# Altium schematic symbol library Quectel.SCHLIB: 26 symbols
Pins are listed as number, name and electrical type; pins without a type are passive.

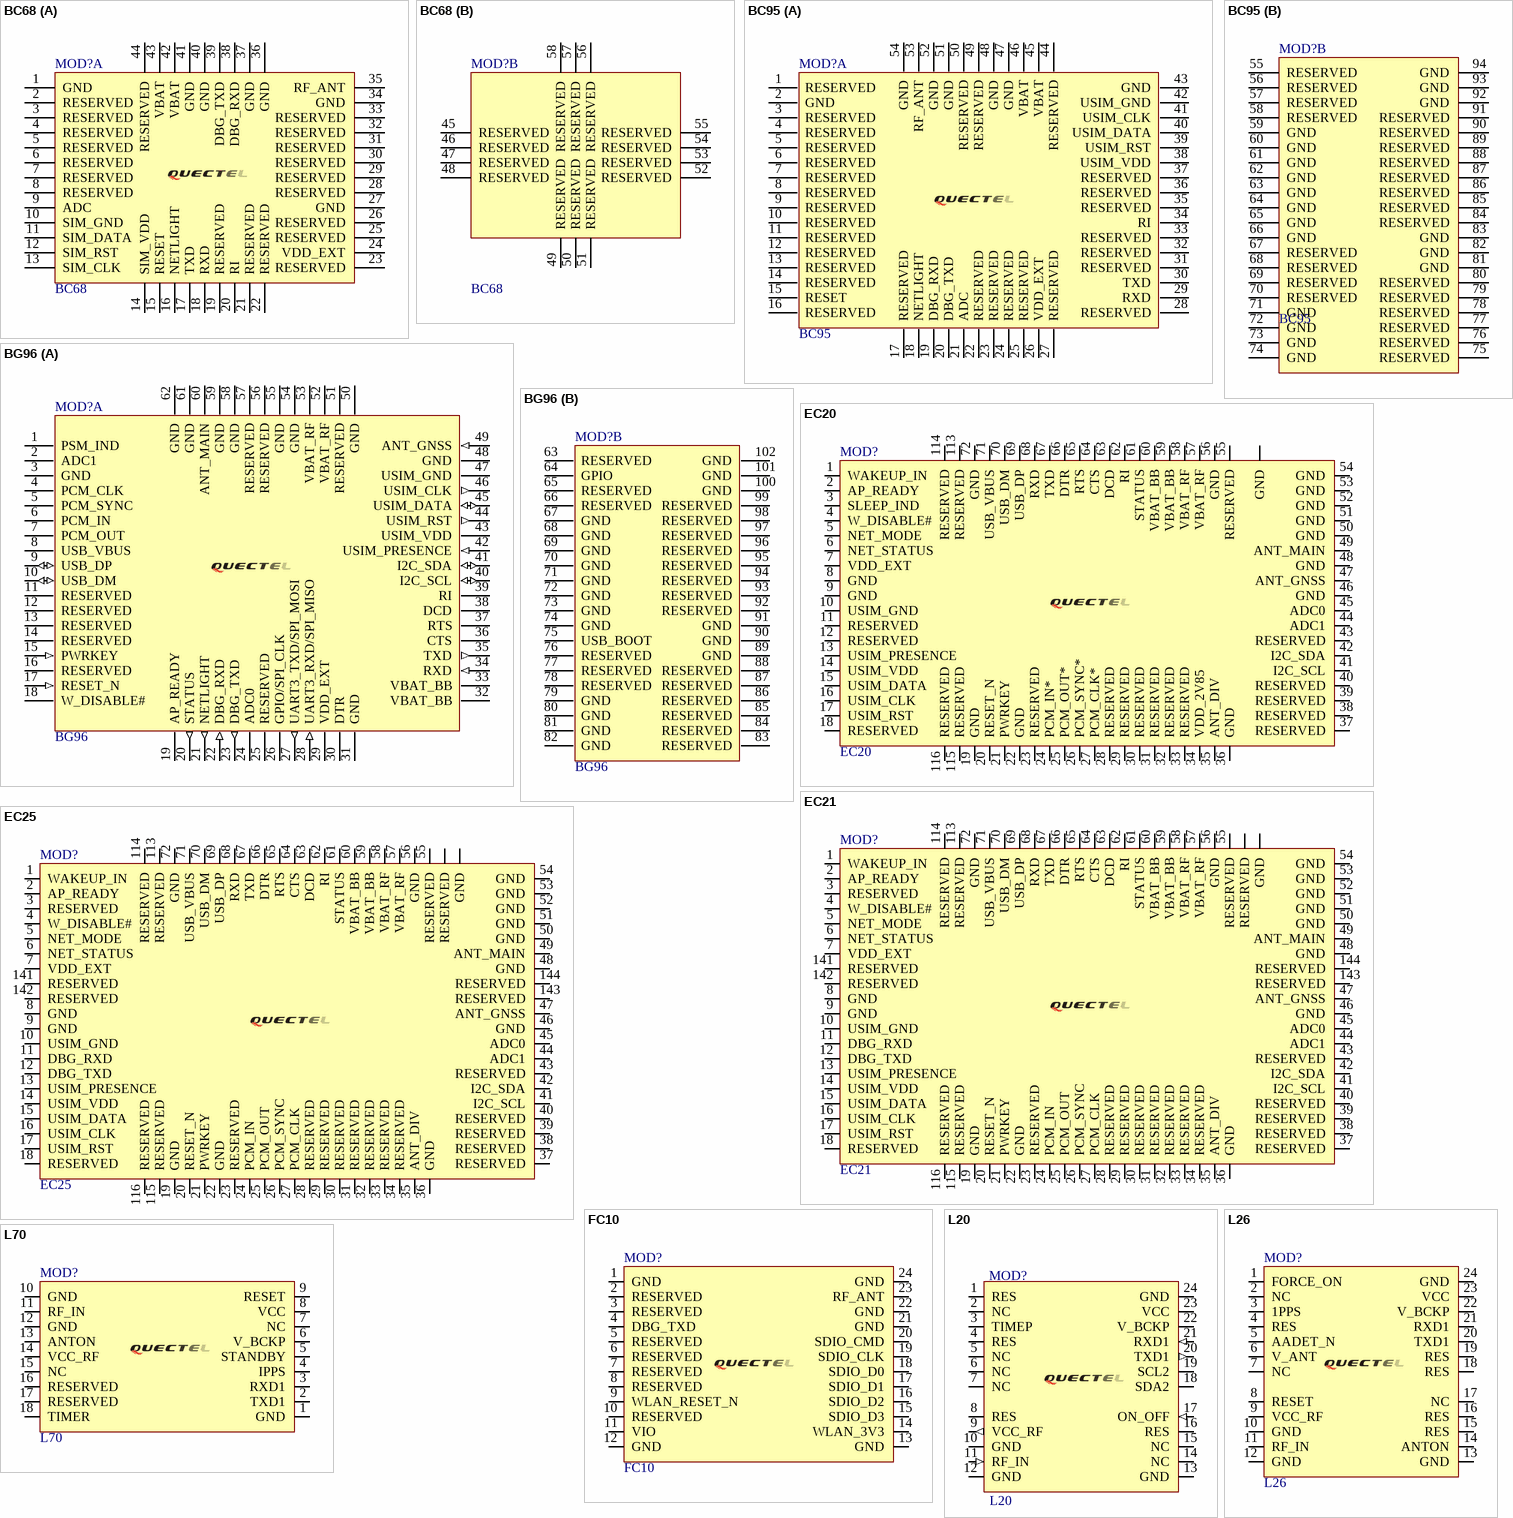
[diagram p0: symbols BC68 to L70]

## BC68
designator MOD?
NB-IoT module; Manuf1: Quectel; Populated: Yes; ReferencePackage: LCC; Value: BC68; ComponentLink1Description: Datasheet; LifeCycle: Checked; Manuf1Partnumber: BC68; PackageReference: LCC; ROHS: Yes; Supplier 1: Quectel; Supplier 1 Part Number: BC68
footprint BC68 (BC68 15.8X17.7mm H2.05mm RO)
part A pins: 1 GND, 2 RESERVED, 3 RESERVED, 4 RESERVED, 5 RESERVED, 6 RESERVED, 7 RESERVED, 8 RESERVED, 9 ADC, 10 SIM_GND, 11 SIM_DATA, 12 SIM_RST, 13 SIM_CLK, 14 SIM_VDD, 15 RESET, 16 NETLIGHT, 17 TXD, 18 RXD, 19 RESERVED, 20 RI, 21 RESERVED, 22 RESERVED, 23 RESERVED, 24 VDD_EXT, 25 RESERVED, 26 RESERVED, 27 GND, 28 RESERVED, 29 RESERVED, 30 RESERVED, 31 RESERVED, 32 RESERVED, 33 RESERVED, 34 GND, 35 RF_ANT, 36 GND, 37 GND, 38 DBG_RXD, 39 DBG_TXD, 40 GND, 41 GND, 42 VBAT, 43 VBAT, 44 RESERVED
part B pins: 45 RESERVED, 46 RESERVED, 47 RESERVED, 48 RESERVED, 49 RESERVED, 50 RESERVED, 51 RESERVED, 52 RESERVED, 53 RESERVED, 54 RESERVED, 55 RESERVED, 56 RESERVED, 57 RESERVED, 58 RESERVED

## BC95
designator MOD?
LTE NB-IoT Module; Manuf1: Quectel; Populated: Yes; ReferencePackage: LCC; Value: BC95; ComponentLink1Description: Datasheet; LifeCycle: Checked; Manuf1Partnumber: BC95; PackageReference: LCC; ROHS: Yes; Supplier 1: Quectel; Supplier 1 Part Number: BC95
footprint BC95
part A pins: 1 RESERVED, 2 GND, 3 RESERVED, 4 RESERVED, 5 RESERVED, 6 RESERVED, 7 RESERVED, 8 RESERVED, 9 RESERVED, 10 RESERVED, 11 RESERVED, 12 RESERVED, 13 RESERVED, 14 RESERVED, 15 RESET, 16 RESERVED, 17 RESERVED, 18 NETLIGHT, 19 DBG_RXD, 20 DBG_TXD, 21 ADC, 22 RESERVED, 23 RESERVED, 24 RESERVED, 25 RESERVED, 26 VDD_EXT, 27 RESERVED, 28 RESERVED, 29 RXD, 30 TXD, 31 RESERVED, 32 RESERVED, 33 RESERVED, 34 RI, 35 RESERVED, 36 RESERVED, 37 RESERVED, 38 USIM_VDD, 39 USIM_RST, 40 USIM_DATA, 41 USIM_CLK, 42 USIM_GND, 43 GND, 44 RESERVED, 45 VBAT, 46 VBAT, 47 GND, 48 GND, 49 RESERVED, 50 RESERVED, 51 GND, 52 GND, 53 RF_ANT, 54 GND
part B pins: 55 RESERVED, 56 RESERVED, 57 RESERVED, 58 RESERVED, 59 GND, 60 GND, 61 GND, 62 GND, 63 GND, 64 GND, 65 GND, 66 GND, 67 RESERVED, 68 RESERVED, 69 RESERVED, 70 RESERVED, 71 GND, 72 GND, 73 GND, 74 GND, 75 RESERVED, 76 RESERVED, 77 RESERVED, 78 RESERVED, 79 RESERVED, 80 RESERVED, 81 GND, 82 GND, 83 GND, 84 RESERVED, 85 RESERVED, 86 RESERVED, 87 RESERVED, 88 RESERVED, 89 RESERVED, 90 RESERVED, 91 RESERVED, 92 GND, 93 GND, 94 GND
2 alternate drawings of the same symbol

## BG96
designator MOD?
LTE Cat M1/Cat NB1/EGPRS module; Manuf1: Quectel; Populated: Yes; ReferencePackage: LCC; Value: BG96; ComponentLink1Description: Datasheet; LifeCycle: Checked; Manuf1Partnumber: BG96; PackageReference: LCC; ROHS: Yes; Supplier 1: Quectel; Supplier 1 Part Number: BG96
footprint BG96
part A pins: 1 PSM_IND, 2 ADC1, 3 GND, 4 PCM_CLK, 5 PCM_SYNC, 6 PCM_IN, 7 PCM_OUT, 8 USB_VBUS, 9 USB_DP (io), 10 USB_DM (io), 11 RESERVED, 12 RESERVED, 13 RESERVED, 14 RESERVED, 15 PWRKEY (in), 16 RESERVED, 17 RESET_N (in), 18 W_DISABLE#, 19 AP_READY, 20 STATUS (out), 21 NETLIGHT (out), 22 DBG_RXD (in), 23 DBG_TXD (out), 24 ADC0, 25 RESERVED, 26 GPIO/SPI_CLK, 27 UART3_TXD/SPI_MOSI (out), 28 UART3_RXD/SPI_MISO (in), 29 VDD_EXT, 30 DTR, 31 GND, 32 VBAT_BB, 33 VBAT_BB, 34 RXD (in), 35 TXD (out), 36 CTS, 37 RTS, 38 DCD, 39 RI, 40 I2C_SCL (io), 41 I2C_SDA (io), 42 USIM_PRESENCE (in), 43 USIM_VDD, 44 USIM_RST (out), 45 USIM_DATA (io), 46 USIM_CLK (out), 47 USIM_GND, 48 GND, 49 ANT_GNSS (in), 50 GND, 51 RESERVED, 52 VBAT_RF, 53 VBAT_RF, 54 GND, 55 GND, 56 RESERVED, 57 RESERVED, 58 GND, 59 GND, 60 ANT_MAIN, 61 GND, 62 GND
part B pins: 63 RESERVED, 64 GPIO, 65 RESERVED, 66 RESERVED, 67 GND, 68 GND, 69 GND, 70 GND, 71 GND, 72 GND, 73 GND, 74 GND, 75 USB_BOOT, 76 RESERVED, 77 RESERVED, 78 RESERVED, 79 GND, 80 GND, 81 GND, 82 GND, 83 RESERVED, 84 RESERVED, 85 RESERVED, 86 RESERVED, 87 RESERVED, 88 RESERVED, 89 GND, 90 GND, 91 GND, 92 RESERVED, 93 RESERVED, 94 RESERVED, 95 RESERVED, 96 RESERVED, 97 RESERVED, 98 RESERVED, 99 RESERVED, 100 GND, 101 GND, 102 GND

## EC20
designator MOD?
LTE module; Manuf1: Quectel; Populated: Yes; ReferencePackage: LCC; LifeCycle: Checked; Manuf1Partnumber: EC20; PackageReference: LCC; ROHS: Yes; Supplier 1: Quectel; Supplier 1 Part Number: EC20; Value: EC20; ComponentLink1Description: Datasheet; ComponentLink1URL: http://www.quectel.com/UploadImage/Downlad/Quectel_EC20_Hardware_Design_V1.2.pdf
footprint EC20
pins: 1 WAKEUP_IN, 2 AP_READY, 3 SLEEP_IND, 4 W_DISABLE#, 5 NET_MODE, 6 NET_STATUS, 7 VDD_EXT, 8 GND, 9 GND, 10 USIM_GND, 11 RESERVED, 12 RESERVED, 13 USIM_PRESENCE, 14 USIM_VDD, 15 USIM_DATA, 16 USIM_CLK, 17 USIM_RST, 18 RESERVED, 19 GND, 20 RESET_N, 21 PWRKEY, 22 GND, 23 RESERVED, 24 PCM_IN*, 25 PCM_OUT*, 26 PCM_SYNC*, 27 PCM_CLK*, 28 RESERVED, 29 RESERVED, 30 RESERVED, 31 RESERVED, 32 RESERVED, 33 RESERVED, 34 VDD_2V85, 35 ANT_DIV, 36 GND, 37 RESERVED, 38 RESERVED, 39 RESERVED, 40 RESERVED, 41 I2C_SCL, 42 I2C_SDA, 43 RESERVED, 44 ADC1, 45 ADC0, 46 GND, 47 ANT_GNSS, 48 GND, 49 ANT_MAIN, 50 GND, 51 GND, 52 GND, 53 GND, 54 GND, 55 RESERVED, 56 GND, 57 VBAT_RF, 58 VBAT_RF, 59 VBAT_BB, 60 VBAT_BB, 61 STATUS, 62 RI, 63 DCD, 64 CTS, 65 RTS, 66 DTR, 67 TXD, 68 RXD, 69 USB_DP, 70 USB_DM, 71 USB_VBUS, 72 GND, 85, 86, 87, 88, 89, 90, 91, 92, 93, 94, 95, 96, 97, 98, 99, 100, 101, 102, 103, 104, 105, 106, 107, 108, 109, 110, 111, 112 GND, 113 RESERVED, 114 RESERVED, 115 RESERVED, 116 RESERVED

## EC21
designator MOD?
LTE category-1 module; Manuf1: Quectel; Populated: Yes; ReferencePackage: LCC; Value: EC21; ComponentLink1Description: Datasheet; ComponentLink1URL: http://www.quectel.com/UploadImage/Downlad/Quectel_EC21_Hardware_Design_V1.0.pdf; LifeCycle: Checked; Manuf1Partnumber: EC21; PackageReference: LCC; ROHS: Yes; Supplier 1: Quectel; Supplier 1 Part Number: EC21
footprint EC21
pins: 1 WAKEUP_IN, 2 AP_READY, 3 RESERVED, 4 W_DISABLE#, 5 NET_MODE, 6 NET_STATUS, 7 VDD_EXT, 8 GND, 9 GND, 10 USIM_GND, 11 DBG_RXD, 12 DBG_TXD, 13 USIM_PRESENCE, 14 USIM_VDD, 15 USIM_DATA, 16 USIM_CLK, 17 USIM_RST, 18 RESERVED, 19 GND, 20 RESET_N, 21 PWRKEY, 22 GND, 23 RESERVED, 24 PCM_IN, 25 PCM_OUT, 26 PCM_SYNC, 27 PCM_CLK, 28 RESERVED, 29 RESERVED, 30 RESERVED, 31 RESERVED, 32 RESERVED, 33 RESERVED, 34 RESERVED, 35 ANT_DIV, 36 GND, 37 RESERVED, 38 RESERVED, 39 RESERVED, 40 RESERVED, 41 I2C_SCL, 42 I2C_SDA, 43 RESERVED, 44 ADC1, 45 ADC0, 46 GND, 47 ANT_GNSS, 48 GND, 49 ANT_MAIN, 50 GND, 51 GND, 52 GND, 53 GND, 54 GND, 55 RESERVED, 56 GND, 57 VBAT_RF, 58 VBAT_RF, 59 VBAT_BB, 60 VBAT_BB, 61 STATUS, 62 RI, 63 DCD, 64 CTS, 65 RTS, 66 DTR, 67 TXD, 68 RXD, 69 USB_DP, 70 USB_DM, 71 USB_VBUS, 72 GND, 85, 86, 87, 88, 89, 90, 91, 92, 93, 94, 95, 96, 97, 98, 99, 100, 101, 102, 103, 104, 105, 106, 107, 108, 109, 110, 111, 112 GND, 113 RESERVED, 114 RESERVED, 115 RESERVED, 116 RESERVED, 117, 118, 119, 120, 121, 122, 123, 124, 125, 126, 127, 128, 129, 130, 131, 132, 133, 134, 135, 136, 137, 138, 139, 140 RESERVED, 141 RESERVED, 142 RESERVED, 143 RESERVED, 144 RESERVED

## EC25
designator MOD?
LTE category-4 module; Manuf1: Quectel; Populated: Yes; ReferencePackage: LCC; Value: EC25; ComponentLink1Description: Datasheet; ComponentLink1URL: http://www.quectel.com/UploadImage/Downlad/Quectel_EC25_Hardware_Design_V1.0.pdf; LifeCycle: Checked; Manuf1Partnumber: EC25; PackageReference: LCC; ROHS: Yes; Supplier 1: Quectel; Supplier 1 Part Number: EC25
footprint EC25
pins: 1 WAKEUP_IN, 2 AP_READY, 3 RESERVED, 4 W_DISABLE#, 5 NET_MODE, 6 NET_STATUS, 7 VDD_EXT, 8 GND, 9 GND, 10 USIM_GND, 11 DBG_RXD, 12 DBG_TXD, 13 USIM_PRESENCE, 14 USIM_VDD, 15 USIM_DATA, 16 USIM_CLK, 17 USIM_RST, 18 RESERVED, 19 GND, 20 RESET_N, 21 PWRKEY, 22 GND, 23 RESERVED, 24 PCM_IN, 25 PCM_OUT, 26 PCM_SYNC, 27 PCM_CLK, 28 RESERVED, 29 RESERVED, 30 RESERVED, 31 RESERVED, 32 RESERVED, 33 RESERVED, 34 RESERVED, 35 ANT_DIV, 36 GND, 37 RESERVED, 38 RESERVED, 39 RESERVED, 40 RESERVED, 41 I2C_SCL, 42 I2C_SDA, 43 RESERVED, 44 ADC1, 45 ADC0, 46 GND, 47 ANT_GNSS, 48 GND, 49 ANT_MAIN, 50 GND, 51 GND, 52 GND, 53 GND, 54 GND, 55 RESERVED, 56 GND, 57 VBAT_RF, 58 VBAT_RF, 59 VBAT_BB, 60 VBAT_BB, 61 STATUS, 62 RI, 63 DCD, 64 CTS, 65 RTS, 66 DTR, 67 TXD, 68 RXD, 69 USB_DP, 70 USB_DM, 71 USB_VBUS, 72 GND, 85, 86, 87, 88, 89, 90, 91, 92, 93, 94, 95, 96, 97, 98, 99, 100, 101, 102, 103, 104, 105, 106, 107, 108, 109, 110, 111, 112 GND, 113 RESERVED, 114 RESERVED, 115 RESERVED, 116 RESERVED, 117, 118, 119, 120, 121, 122, 123, 124, 125, 126, 127, 128, 129, 130, 131, 132, 133, 134, 135, 136, 137, 138, 139, 140 RESERVED, 141 RESERVED, 142 RESERVED, 143 RESERVED, 144 RESERVED

## FC10
designator MOD?
embedded Wi-Fi wireless solution; Manuf1: Quectel; Populated: Yes; ReferencePackage: LCC; LifeCycle: Checked; Manuf1Partnumber: FC10; PackageReference: LCC; ROHS: Yes; Supplier 1: Quectel; Supplier 1 Part Number: FC10; Value: FC10; ComponentLink1Description: Datasheet; ComponentLink1URL: http://www.quectel.com/UploadImage/Downlad/Quectel_FC10_Hardware_Design_V1.0.pdf
footprint FC10
pins: 1 GND, 2 RESERVED, 3 RESERVED, 4 DBG_TXD, 5 RESERVED, 6 RESERVED, 7 RESERVED, 8 RESERVED, 9 WLAN_RESET_N, 10 RESERVED, 11 VIO, 12 GND, 13 GND, 14 WLAN_3V3, 15 SDIO_D3, 16 SDIO_D2, 17 SDIO_D1, 18 SDIO_D0, 19 SDIO_CLK, 20 SDIO_CMD, 21 GND, 22 GND, 23 RF_ANT, 24 GND

## L20
designator MOD?
GPS receiver module; Manuf1: Quectel; Populated: Yes; ReferencePackage: LCC; Value: L20; Manuf1Partnumber: L20; ROHS: Yes; HelpURL: http://www.quectel.com/es/product/prodetail.aspx?id=10; LifeCycle: Checked; Supplier 1 Part Number: L20; Supplier 1: Quectel; PackageReference: LCC; ComponentLink1Description: Datasheet; ComponentLink1URL: http://www.quectel.com/UploadImage/Downlad/Quectel_L20_Hardware_Design_V2.2.pdf
footprint L20
pins: 1 RES, 2 NC, 3 TIMEP, 4 RES, 5 NC, 6 NC, 7 NC, 8 RES, 9 VCC_RF (out), 10 GND (power), 11 RF_IN (in), 12 GND (power), 13 GND (power), 14 NC, 15 NC, 16 RES, 17 ON_OFF (in), 18 SDA2 (io), 19 SCL2 (io), 20 TXD1 (out), 21 RXD1 (in), 22 V_BCKP (power), 23 VCC (power), 24 GND (power)

## L26
designator MOD?
GPS receiver module; Manuf1: Quectel; Populated: Yes; ReferencePackage: LCC; Value: L26; LifeCycle: Checked; Manuf1Partnumber: L26; PackageReference: LCC; ROHS: Yes; Supplier 1: Quectel; Supplier 1 Part Number: L26; ComponentLink1Description: Datasheet; ComponentLink1URL: http://www.quectel.com/UploadImage/Downlad/Quectel_L26_Hardware_Design_V1.3.pdf
footprint L26
pins: 1 FORCE_ON, 2 NC, 3 1PPS, 4 RES, 5 AADET_N, 6 V_ANT, 7 NC, 8 RESET, 9 VCC_RF, 10 GND, 11 RF_IN, 12 GND, 13 GND, 14 ANTON, 15 RES, 16 RES, 17 NC, 18 RES, 19 RES, 20 TXD1, 21 RXD1, 22 V_BCKP, 23 VCC, 24 GND

## L70
designator MOD?
GPS receiver module; Manuf1: Quectel; Populated: Yes; ReferencePackage: LCC; Value: L70; LifeCycle: Checked; Manuf1Partnumber: L70; PackageReference: LCC; ROHS: Yes; Supplier 1: Quectel; Supplier 1 Part Number: L70; ComponentLink1Description: Datasheet; ComponentLink1URL: http://www.quectel.com/UploadImage/Downlad/Quectel_L70_Hardware_Design_V2.3.pdf
footprint L7x
pins: 1 GND, 2 TXD1, 3 RXD1, 4 IPPS, 5 STANDBY, 6 V_BCKP, 7 NC, 8 VCC, 9 RESET, 10 GND, 11 RF_IN, 12 GND, 13 ANTON, 14 VCC_RF, 15 NC, 16 RESERVED, 17 RESERVED, 18 TIMER

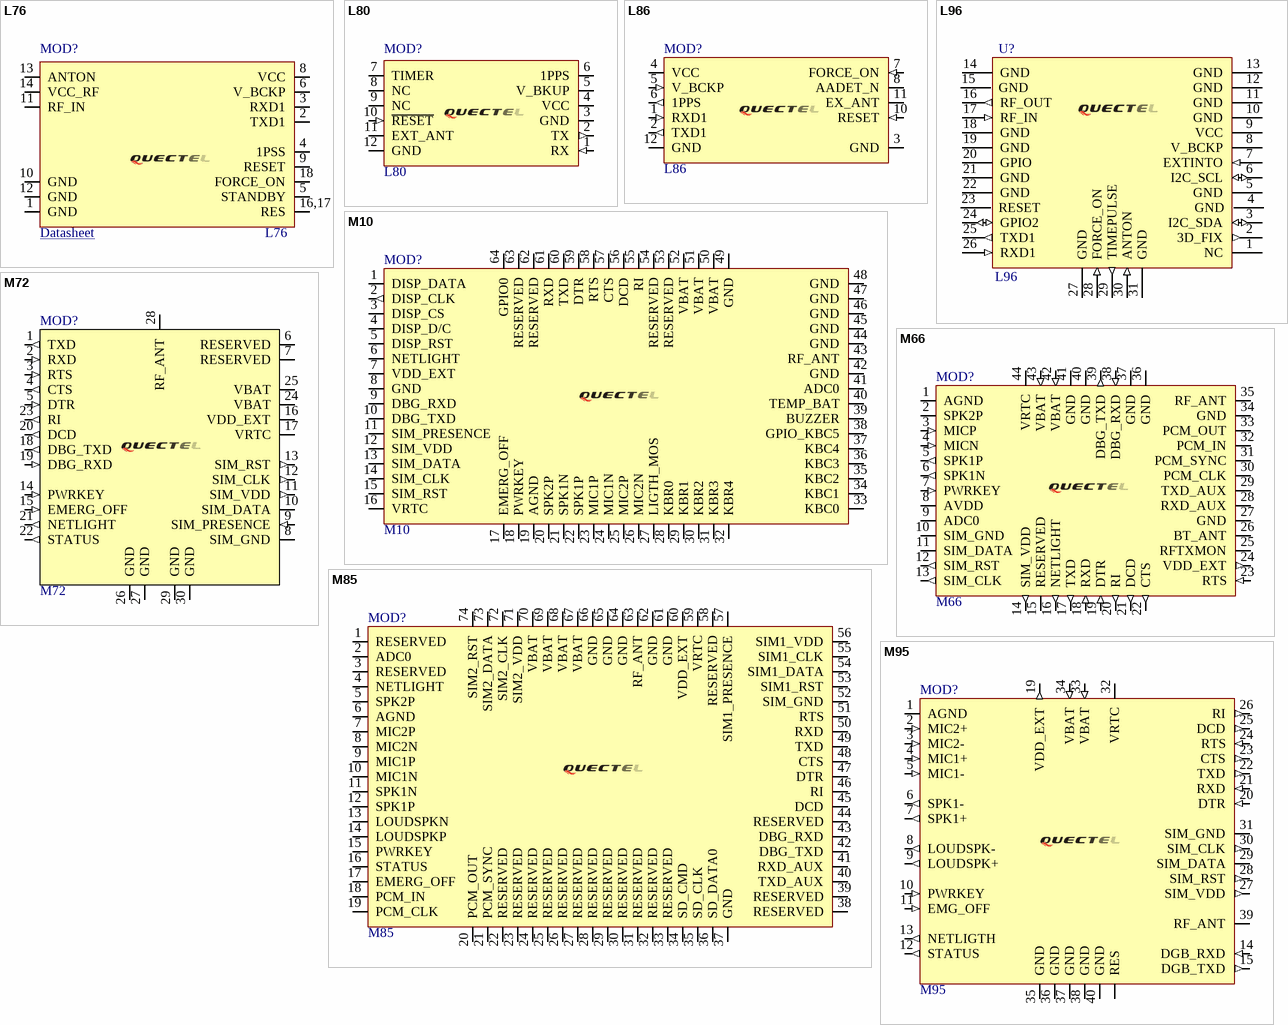
[diagram p1: symbols L76 to M95]

## L76
designator MOD?
GNSS receiver module; Manuf1: Quectel; Populated: Yes; ReferencePackage: LCC; Value: L76; ROHS: Yes; PackageReference: LCC; LifeCycle: Checked; Supplier 1 Part Number: L76; Supplier 1: Quectel; Manuf1Partnumber: L76; ComponentLink1Description: Datasheet
footprint L7x
pins: 1 GND, 2 TXD1, 3 RXD1, 4 1PSS, 5 STANDBY, 6 V_BCKP, 8 VCC, 9 RESET, 10 GND, 11 RF_IN, 12 GND, 13 ANTON, 14 VCC_RF, 16,17 RES, 18 FORCE_ON

## L80
designator MOD?  (net tie)
GPS POT (Patch on Top) module with an embedded patch antenna; Manuf1: Quectel; Populated: Yes; ReferencePackage: LCC; Value: L80; Manuf1Partnumber: L80; ROHS: Yes; HelpURL: http://www.quectel.com/es/product/prodetail.aspx?id=62; LifeCycle: Checked; Supplier 1 Part Number: L80; Supplier 1: Quectel; PackageReference: LCC; ComponentLink1Description: Datasheet; ComponentLink1URL: http://www.quectel.com/UploadImage/Downlad/Quectel_L80_Hardware_Design_V1.4.pdf
footprint L80
pins: 1 RX (in), 2 TX (out), 3 GND (power), 4 VCC (power), 5 V_BKUP (power), 6 1PPS, 7 TIMER, 8 NC, 9 NC, 10 ~{RESET} (in), 11 EXT_ANT (io), 12 GND (power)

## L86
designator MOD?
GNSS POT (Patch on Top) module with an embedded patch antenna; Manuf1: Quectel; Populated: Yes; ReferencePackage: LCC; Value: L86; LifeCycle: Checked; Manuf1Partnumber: L86; PackageReference: LCC; ROHS: Yes; Supplier 1: Quectel; Supplier 1 Part Number: L86; ComponentLink1Description: Datasheet; ComponentLink1URL: http://www.quectel.com/UploadImage/Downlad/Quectel_L86_Hardware_Design_V1.2.pdf
footprint L86
pins: 1 RXD1 (in), 2 TXD1 (out), 3 GND (power), 4 VCC, 5 V_BCKP (in), 6 1PPS (out), 7 FORCE_ON (in), 8 AADET_N, 10 RESET (in), 11 EX_ANT (io), 12 GND (power)

## L96
designator U?
Concurrent multi-GNSS receiver module; Manuf1: Quectel; Populated: Yes; ReferencePackage: LCC; Value: L96; ComponentLink1Description: Datasheet; LifeCycle: Checked; Manuf1Partnumber: L96; PackageReference: LCC; ROHS: Yes; Supplier 1: Quectel; Supplier 1 Part Number: L96
footprint L96
pins: 1 NC, 2 3D_FIX (out), 3 I2C_SDA (io), 4 GND, 5 GND, 6 I2C_SCL (io), 7 EXTINTO (in), 8 V_BCKP, 9 VCC, 10 GND, 11 GND, 12 GND, 13 GND, 14 GND, 15 GND, 16 RF_OUT (out), 17 RF_IN (in), 18 GND, 19 GND, 20 GPIO, 21 GND, 22 GND, 23 RESET, 24 GPIO2 (io), 25 TXD1 (out), 26 RXD1 (in), 27 GND, 28 FORCE_ON (in), 29 TIMEPULSE (out), 30 ANTON (in), 31 GND

## M10
designator MOD?
Quad-band GSM/GPRS module; Manuf1: Quectel; Populated: Yes; ReferencePackage: LCC; Manuf1PartNumber: M10; ROHS: Yes; LifeCycle: Checked; Value: M10; Supplier 1: Quectel; Supplier 1 Part Number: M10; PackageReference: LCC; ComponentLink1Description: Datasheet; ComponentLink1URL: http://www.quectel.com/UploadImage/Downlad/Quectel_M10_Hardware_Design_V4.0.pdf
footprint M10
pins: 1 DISP_DATA (io), 2 DISP_CLK (out), 3 DISP_CS, 4 DISP_D/C, 5 DISP_RST, 6 NETLIGHT, 7 VDD_EXT, 8 GND, 9 DBG_RXD, 10 DBG_TXD, 11 SIM_PRESENCE, 12 SIM_VDD, 13 SIM_DATA, 14 SIM_CLK, 15 SIM_RST, 16 VRTC, 17 EMERG_OFF, 18 PWRKEY, 19 AGND, 20 SPK2P, 21 SPK1N, 22 SPK1P, 23 MIC1P, 24 MIC1N, 25 MIC2P, 26 MIC2N, 27 LIGTH_MOS, 28 KBR0, 29 KBR1, 30 KBR2, 31 KBR3, 32 KBR4, 33 KBC0, 34 KBC1, 35 KBC2, 36 KBC3, 37 KBC4, 38 GPIO_KBC5, 39 BUZZER, 40 TEMP_BAT, 41 ADC0, 42 GND, 43 RF_ANT, 44 GND, 45 GND, 46 GND, 47 GND, 48 GND, 49 GND, 50 VBAT, 51 VBAT, 52 VBAT, 53 RESERVED, 54 RESERVED, 55 RI, 56 DCD, 57 CTS, 58 RTS, 59 DTR, 60 TXD, 61 RXD, 62 RESERVED, 63 RESERVED, 64 GPIO0

## M66
designator MOD?
Smallest Quad-band GSM/GPRS; Manuf1: Quectel; Populated: Yes; ReferencePackage: LCC; LifeCycle: Checked; Manuf1Partnumber: M66; PackageReference: LCC; ROHS: Yes; Supplier 1: Quectel; Supplier 1 Part Number: M66; Value: M66; ComponentLink1Description: Datasheet; ComponentLink1URL: http://www.quectel.com/UploadImage/Downlad/Quectel_M66_Hardware_Design_V1.1.pdf
footprint M66
pins: 1 AGND, 2 SPK2P, 3 MICP (in), 4 MICN (in), 5 SPK1P (out), 6 SPK1N (out), 7 PWRKEY (in), 8 AVDD, 9 ADC0, 10 SIM_GND, 11 SIM_DATA (io), 12 SIM_RST (out), 13 SIM_CLK (out), 14 SIM_VDD (out), 15 RESERVED, 16 NETLIGHT (out), 17 TXD (out), 18 RXD (in), 19 DTR (in), 20 RI (out), 21 DCD (out), 22 CTS (out), 23 RTS (in), 24 VDD_EXT (out), 25 RFTXMON, 26 BT_ANT, 27 GND (power), 28 RXD_AUX, 29 TXD_AUX, 30 PCM_CLK, 31 PCM_SYNC, 32 PCM_IN, 33 PCM_OUT, 34 GND (power), 35 RF_ANT (io), 36 GND (power), 37 GND (power), 38 DBG_RXD (in), 39 DBG_TXD (out), 40 GND (power), 41 GND (power), 42 VBAT (in), 43 VBAT (in), 44 VRTC (io)

## M72
designator MOD?
Dual-band 900/1800 GSM/GPRS module; Manuf1: Quectel; Populated: Yes; ReferencePackage: LCC; Value: M72; LifeCycle: Obsolete; Manuf1Partnumber: M72; PackageReference: LCC; ROHS: Yes; Supplier 1: Quectel; Supplier 1 Part Number: M72; ComponentLink1Description: Datasheet; ComponentLink1URL: http://www.quectel.com/UploadImage/Downlad/Quectel_M72_Hardware_Design_V4.1.pdf
footprint M72
pins: 1 TXD (out), 2 RXD (in), 3 RTS (in), 4 CTS (out), 5 DTR (in), 6 RESERVED, 7 RESERVED, 8 SIM_GND (power), 9 SIM_PRESENCE (in), 10 SIM_DATA (io), 11 SIM_VDD (out), 12 SIM_CLK (out), 13 SIM_RST (out), 14 PWRKEY (in), 15 EMERG_OFF (in), 16 VDD_EXT (power), 17 VRTC (power), 18 DBG_TXD (out), 19 DBG_RXD (in), 20 DCD (out), 21 NETLIGHT (out), 22 STATUS (out), 23 RI (out), 24 VBAT (power), 25 VBAT (power), 26 GND (power), 27 GND (power), 28 RF_ANT (io), 29 GND (power), 30 GND (power)

## M85
designator MOD?
Quad-band GSM/GPRS module; Manuf1: Quectel; Populated: Yes; ReferencePackage: LCC; Value: M85; LifeCycle: Checked; Manuf1Partnumber: M85; PackageReference: LCC; ROHS: Yes; Supplier 1: Quectel; Supplier 1 Part Number: M85; ComponentLink1Description: Datasheet; ComponentLink1URL: http://www.quectel.com/UploadImage/Downlad/Quectel_M85_Hardware_Design_V3.0.pdf
footprint M85
pins: 1 RESERVED, 2 ADC0, 3 RESERVED, 4 NETLIGHT, 5 SPK2P, 6 AGND, 7 MIC2P, 8 MIC2N, 9 MIC1P, 10 MIC1N, 11 SPK1N, 12 SPK1P, 13 LOUDSPKN, 14 LOUDSPKP, 15 PWRKEY, 16 STATUS, 17 EMERG_OFF, 18 PCM_IN, 19 PCM_CLK, 20 PCM_OUT, 21 PCM_SYNC, 22 RESERVED, 23 RESERVED, 24 RESERVED, 25 RESERVED, 26 RESERVED, 27 RESERVED, 28 RESERVED, 29 RESERVED, 30 RESERVED, 31 RESERVED, 32 RESERVED, 33 RESERVED, 34 SD_CMD, 35 SD_CLK, 36 SD_DATA0, 37 GND, 38 RESERVED, 39 RESERVED, 40 TXD_AUX, 41 RXD_AUX, 42 DBG_TXD, 43 DBG_RXD, 44 RESERVED, 45 DCD, 46 RI, 47 DTR, 48 CTS, 49 TXD, 50 RXD, 51 RTS, 52 SIM_GND, 53 SIM1_RST, 54 SIM1_DATA, 55 SIM1_CLK, 56 SIM1_VDD, 57 SIM1_PRESENCE, 58 RESERVED, 59 VRTC, 60 VDD_EXT, 61 GND, 62 GND, 63 RF_ANT, 64 GND, 65 GND, 66 GND, 67 VBAT, 68 VBAT, 69 VBAT, 70 VBAT, 71 SIM2_VDD, 72 SIM2_CLK, 73 SIM2_DATA, 74 SIM2_RST
2 alternate drawings of the same symbol

## M95
designator MOD?
Quad-band GSM/GPRS module; Manuf1: Quectel; Populated: Yes; ReferencePackage: LCC; Manuf1PartNumber: M95; ROHS: Yes; LifeCycle: Checked; HelpURL: http://www.quectel.com/es/product/prodetail.aspx?id=7; Value: M95; Supplier 1: Quectel; Supplier 1 Part Number: M95; PackageReference: LCC; ComponentLink1Description: Datasheet; ComponentLink1URL: http://www.quectel.com/UploadImage/Downlad/Quectel_M95_Hardware_Design_V3.1.pdf
footprint M95
pins: 1 AGND (power), 2 MIC2+ (in), 3 MIC2- (in), 4 MIC1+ (in), 5 MIC1- (in), 6 SPK1- (out), 7 SPK1+ (out), 8 LOUDSPK- (out), 9 LOUDSPK+ (out), 10 PWRKEY (in), 11 EMG_OFF (in), 12 STATUS (out), 13 NETLIGTH (out), 14 DGB_RXD (in), 15 DGB_TXD (out), 16, 17, 18 RES, 19 VDD_EXT (out), 20 DTR (in), 21 RXD (in), 22 TXD (out), 23 CTS (out), 24 RTS (in), 25 DCD (out), 26 RI (out), 27 SIM_VDD (out), 28 SIM_RST (out), 29 SIM_DATA (io), 30 SIM_CLK (out), 31 SIM_GND (power), 32 VRTC (io), 33 VBAT (in), 34 VBAT (in), 35 GND (power), 36 GND (power), 37 GND (power), 38 GND (power), 39 RF_ANT (io), 40 GND (power)

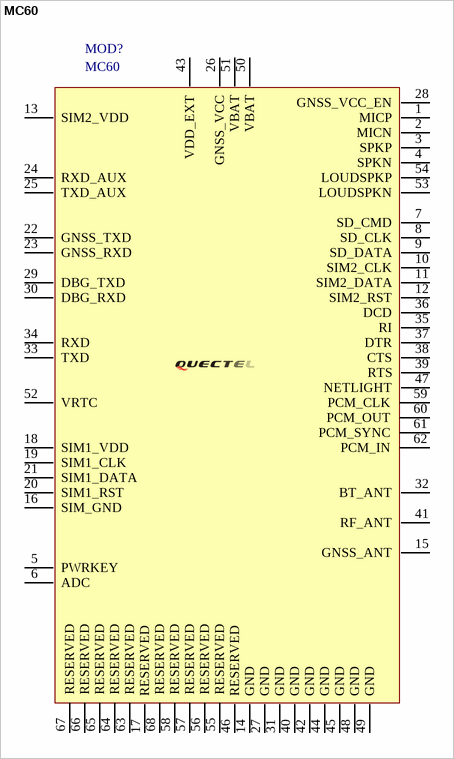
[diagram p2: symbol MC60]

## MC60
designator MOD?
Quad-band full-featured GSM/GPRS with GNSS; Manuf1: Quectel; Populated: Yes; ReferencePackage: LCC; ComponentLink1Description: Datasheet; LifeCycle: Checked; Manuf1Partnumber: MC60; PackageReference: LCC; ROHS: Yes; Supplier 1: Quectel; Supplier 1 Part Number: MC60; Value: MC60
footprint MC60
pins: 1 MICP, 2 MICN, 3 SPKP, 4 SPKN, 5 PWRKEY, 6 ADC, 7 SD_CMD, 8 SD_CLK, 9 SD_DATA, 10 SIM2_CLK, 11 SIM2_DATA, 12 SIM2_RST, 13 SIM2_VDD, 14 GND, 15 GNSS_ANT, 16 SIM_GND, 17 RESERVED, 18 SIM1_VDD, 19 SIM1_CLK, 20 SIM1_RST, 21 SIM1_DATA, 22 GNSS_TXD, 23 GNSS_RXD, 24 RXD_AUX, 25 TXD_AUX, 26 GNSS_VCC, 27 GND, 28 GNSS_VCC_EN, 29 DBG_TXD, 30 DBG_RXD, 31 GND, 32 BT_ANT, 33 TXD, 34 RXD, 35 RI, 36 DCD, 37 DTR, 38 CTS, 39 RTS, 40 GND, 41 RF_ANT, 42 GND, 43 VDD_EXT, 44 GND, 45 GND, 46 RESERVED, 47 NETLIGHT, 48 GND, 49 GND, 50 VBAT, 51 VBAT, 52 VRTC, 53 LOUDSPKN, 54 LOUDSPKP, 55 RESERVED, 56 RESERVED, 57 RESERVED, 58 RESERVED, 59 PCM_CLK, 60 PCM_OUT, 61 PCM_SYNC, 62 PCM_IN, 63 RESERVED, 64 RESERVED, 65 RESERVED, 66 RESERVED, 67 RESERVED, 68 RESERVED

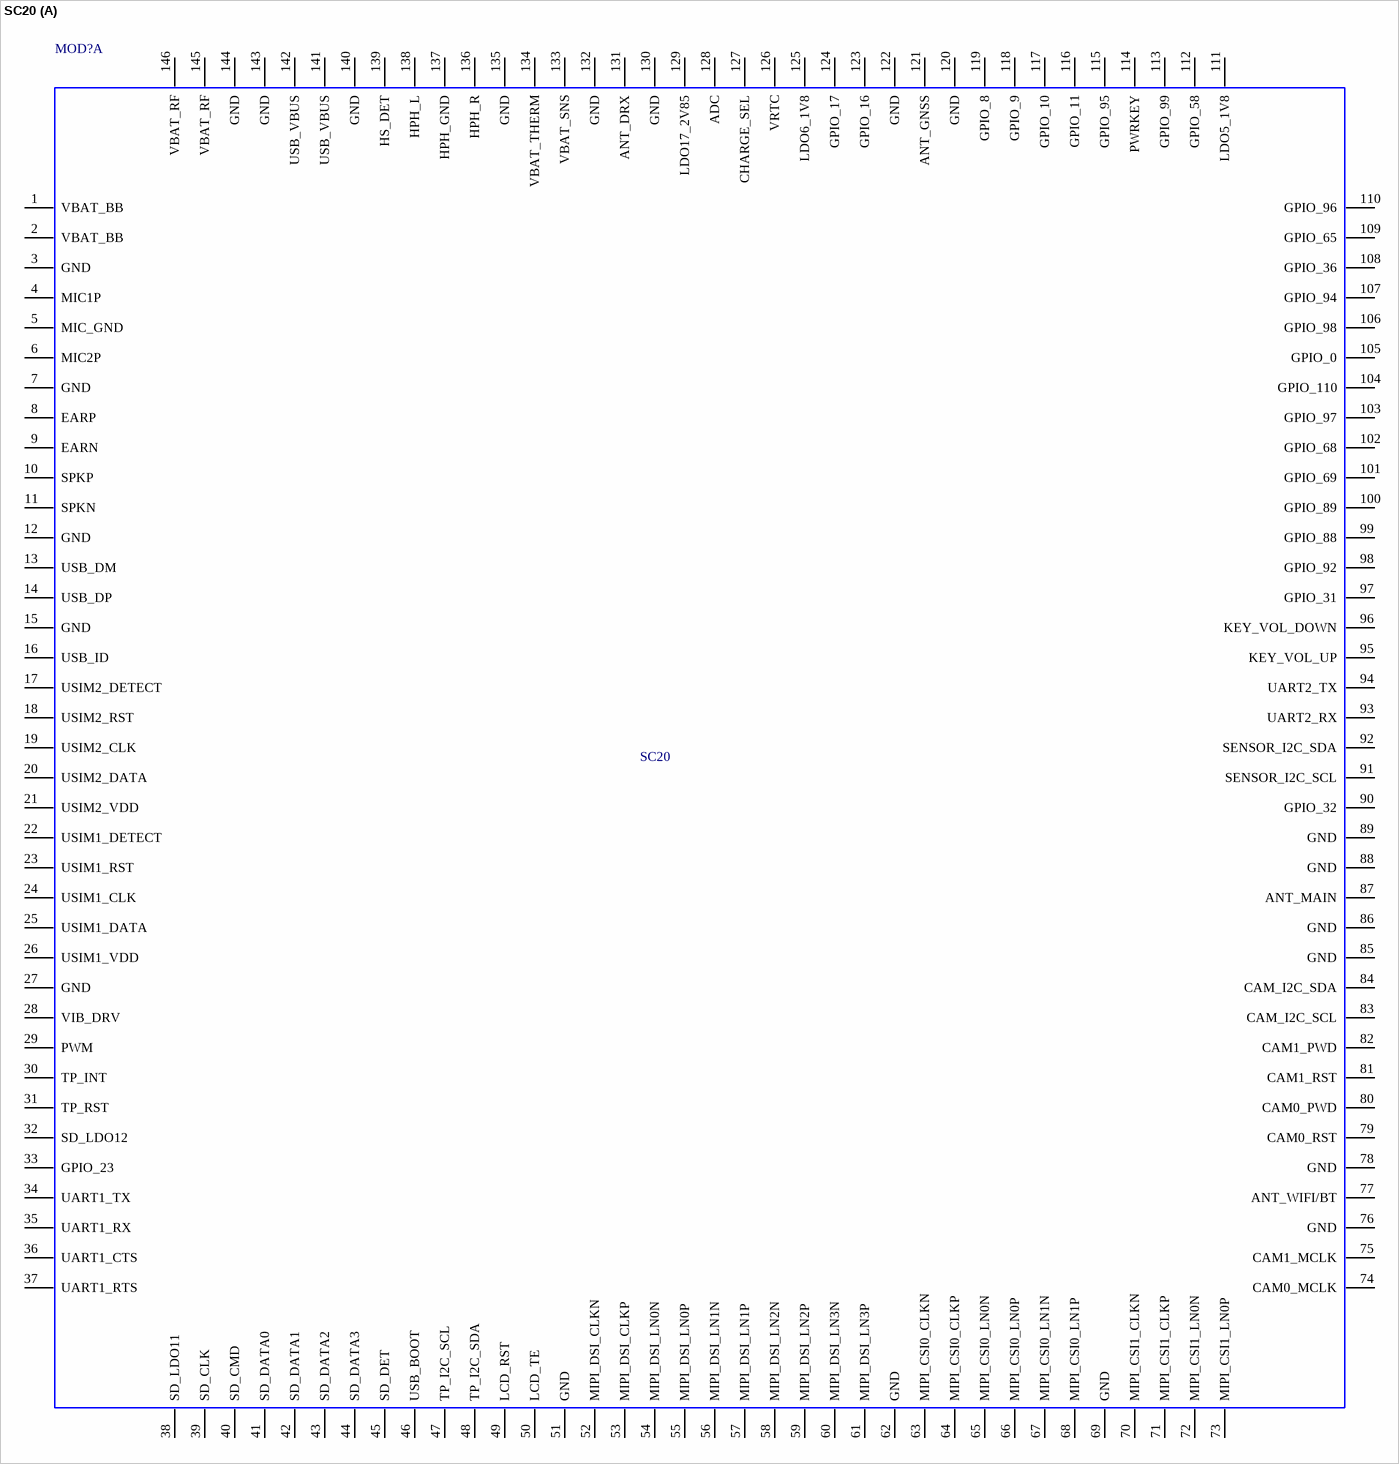
[diagram p3: symbol SC20]

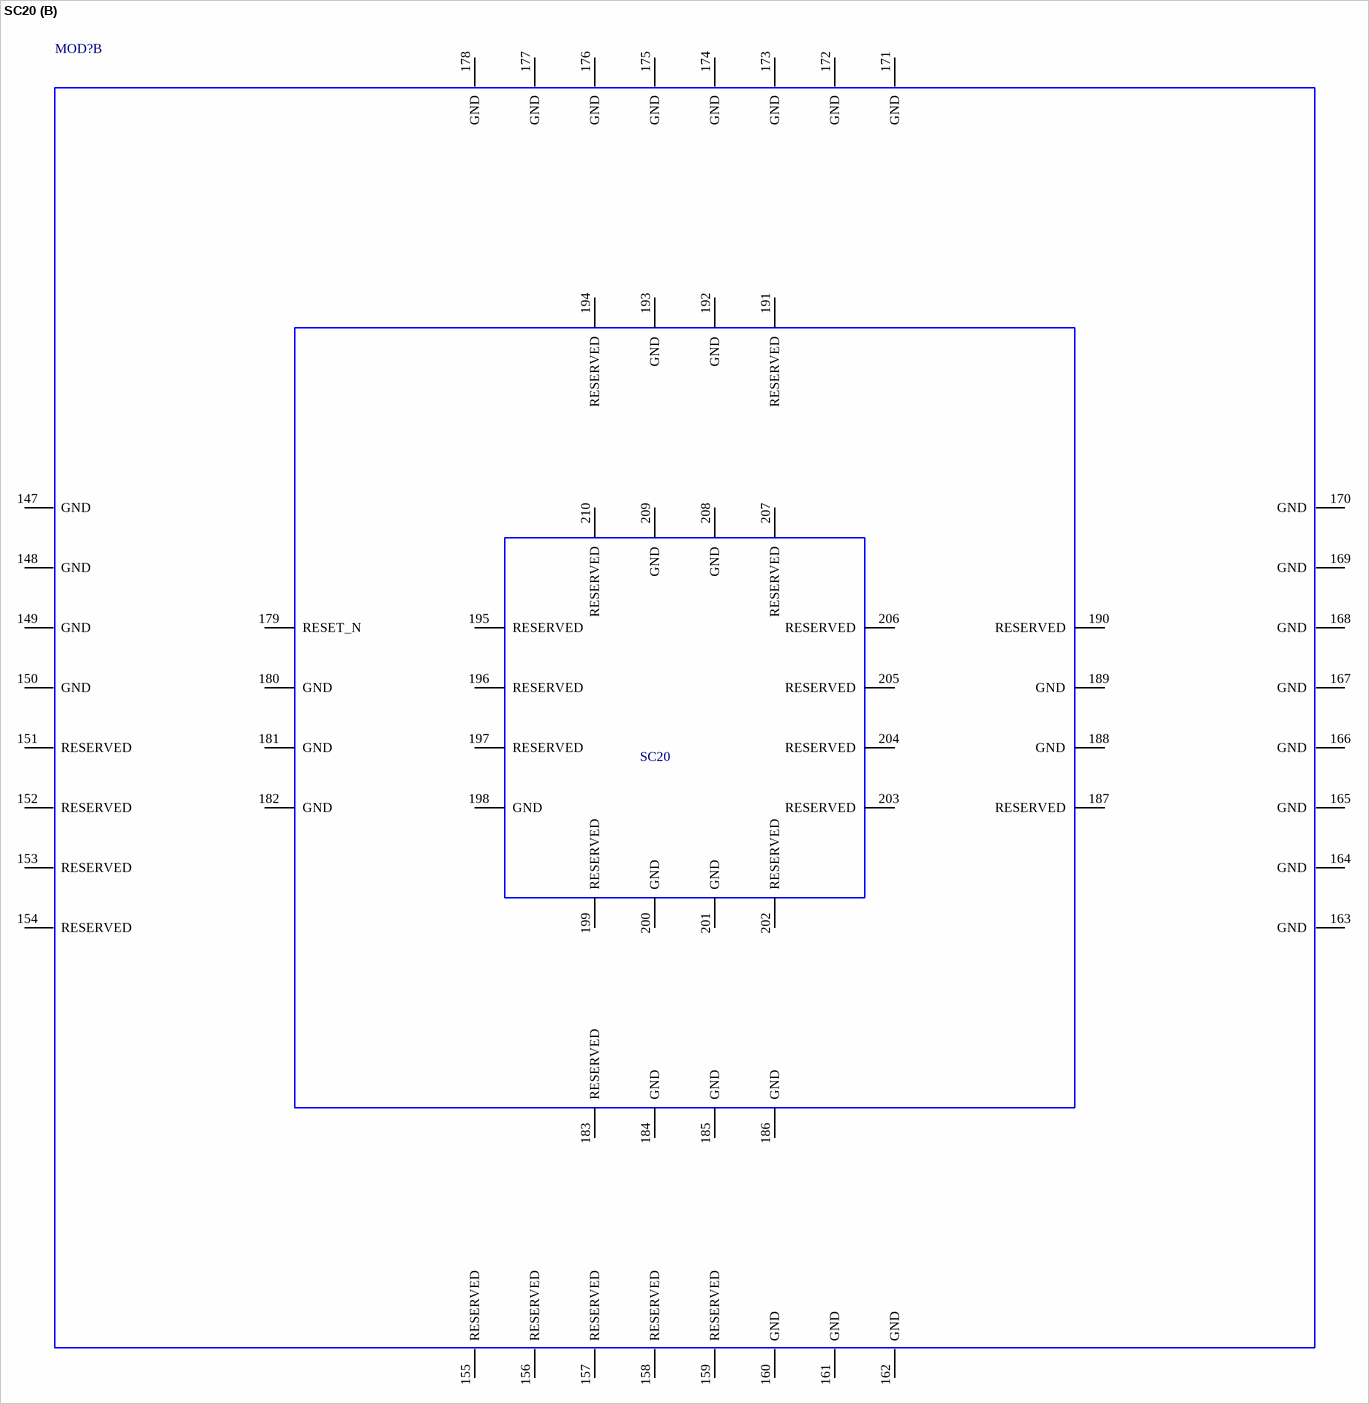
[diagram p4: symbol SC20]

## SC20
designator MOD?
Manuf1: Quectel; Populated: Yes; ReferencePackage: LCC; Value: SC20; ComponentLink1Description: Datasheet; LifeCycle: Checked; Manuf1Partnumber: SC20; PackageReference: LCC; ROHS: Yes; Supplier 1: Quectel; Supplier 1 Part Number: SC20
footprint SC20
part A pins: 1 VBAT_BB, 2 VBAT_BB, 3 GND, 4 MIC1P, 5 MIC_GND, 6 MIC2P, 7 GND, 8 EARP, 9 EARN, 10 SPKP, 11 SPKN, 12 GND, 13 USB_DM, 14 USB_DP, 15 GND, 16 USB_ID, 17 USIM2_DETECT, 18 USIM2_RST, 19 USIM2_CLK, 20 USIM2_DATA, 21 USIM2_VDD, 22 USIM1_DETECT, 23 USIM1_RST, 24 USIM1_CLK, 25 USIM1_DATA, 26 USIM1_VDD, 27 GND, 28 VIB_DRV, 29 PWM, 30 TP_INT, 31 TP_RST, 32 SD_LDO12, 33 GPIO_23, 34 UART1_TX, 35 UART1_RX, 36 UART1_CTS, 37 UART1_RTS, 38 SD_LDO11, 39 SD_CLK, 40 SD_CMD, 41 SD_DATA0, 42 SD_DATA1, 43 SD_DATA2, 44 SD_DATA3, 45 SD_DET, 46 USB_BOOT, 47 TP_I2C_SCL, 48 TP_I2C_SDA, 49 LCD_RST, 50 LCD_TE, 51 GND, 52 MIPI_DSI_CLKN, 53 MIPI_DSI_CLKP, 54 MIPI_DSI_LN0N, 55 MIPI_DSI_LN0P, 56 MIPI_DSI_LN1N, 57 MIPI_DSI_LN1P, 58 MIPI_DSI_LN2N, 59 MIPI_DSI_LN2P, 60 MIPI_DSI_LN3N, 61 MIPI_DSI_LN3P, 62 GND, 63 MIPI_CSI0_CLKN, 64 MIPI_CSI0_CLKP, 65 MIPI_CSI0_LN0N, 66 MIPI_CSI0_LN0P, 67 MIPI_CSI0_LN1N, 68 MIPI_CSI0_LN1P, 69 GND, 70 MIPI_CSI1_CLKN, 71 MIPI_CSI1_CLKP, 72 MIPI_CSI1_LN0N, 73 MIPI_CSI1_LN0P, 74 CAM0_MCLK, 75 CAM1_MCLK, 76 GND, 77 ANT_WIFI/BT, 78 GND, 79 CAM0_RST, 80 CAM0_PWD, 81 CAM1_RST, 82 CAM1_PWD, 83 CAM_I2C_SCL, 84 CAM_I2C_SDA, 85 GND, 86 GND, 87 ANT_MAIN, 88 GND, 89 GND, 90 GPIO_32, 91 SENSOR_I2C_SCL, 92 SENSOR_I2C_SDA, 93 UART2_RX, 94 UART2_TX, 95 KEY_VOL_UP, 96 KEY_VOL_DOWN, 97 GPIO_31, 98 GPIO_92, 99 GPIO_88, 100 GPIO_89, 101 GPIO_69, 102 GPIO_68, 103 GPIO_97, 104 GPIO_110, 105 GPIO_0, 106 GPIO_98, 107 GPIO_94, 108 GPIO_36, 109 GPIO_65, 110 GPIO_96, 111 LDO5_1V8, 112 GPIO_58, 113 GPIO_99, 114 PWRKEY, 115 GPIO_95, 116 GPIO_11, 117 GPIO_10, 118 GPIO_9, 119 GPIO_8, 120 GND, 121 ANT_GNSS, 122 GND, 123 GPIO_16, 124 GPIO_17, 125 LDO6_1V8, 126 VRTC, 127 CHARGE_SEL, 128 ADC, 129 LDO17_2V85, 130 GND, 131 ANT_DRX, 132 GND, 133 VBAT_SNS, 134 VBAT_THERM, 135 GND, 136 HPH_R, 137 HPH_GND, 138 HPH_L, 139 HS_DET, 140 GND, 141 USB_VBUS, 142 USB_VBUS, 143 GND, 144 GND, 145 VBAT_RF, 146 VBAT_RF
part B pins: 147 GND, 148 GND, 149 GND, 150 GND, 151 RESERVED, 152 RESERVED, 153 RESERVED, 154 RESERVED, 155 RESERVED, 156 RESERVED, 157 RESERVED, 158 RESERVED, 159 RESERVED, 160 GND, 161 GND, 162 GND, 163 GND, 164 GND, 165 GND, 166 GND, 167 GND, 168 GND, 169 GND, 170 GND, 171 GND, 172 GND, 173 GND, 174 GND, 175 GND, 176 GND, 177 GND, 178 GND, 179 RESET_N, 180 GND, 181 GND, 182 GND, 183 RESERVED, 184 GND, 185 GND, 186 GND, 187 RESERVED, 188 GND, 189 GND, 190 RESERVED, 191 RESERVED, 192 GND, 193 GND, 194 RESERVED, 195 RESERVED, 196 RESERVED, 197 RESERVED, 198 GND, 199 RESERVED, 200 GND, 201 GND, 202 RESERVED, 203 RESERVED, 204 RESERVED, 205 RESERVED, 206 RESERVED, 207 RESERVED, 208 GND, 209 GND, 210 RESERVED

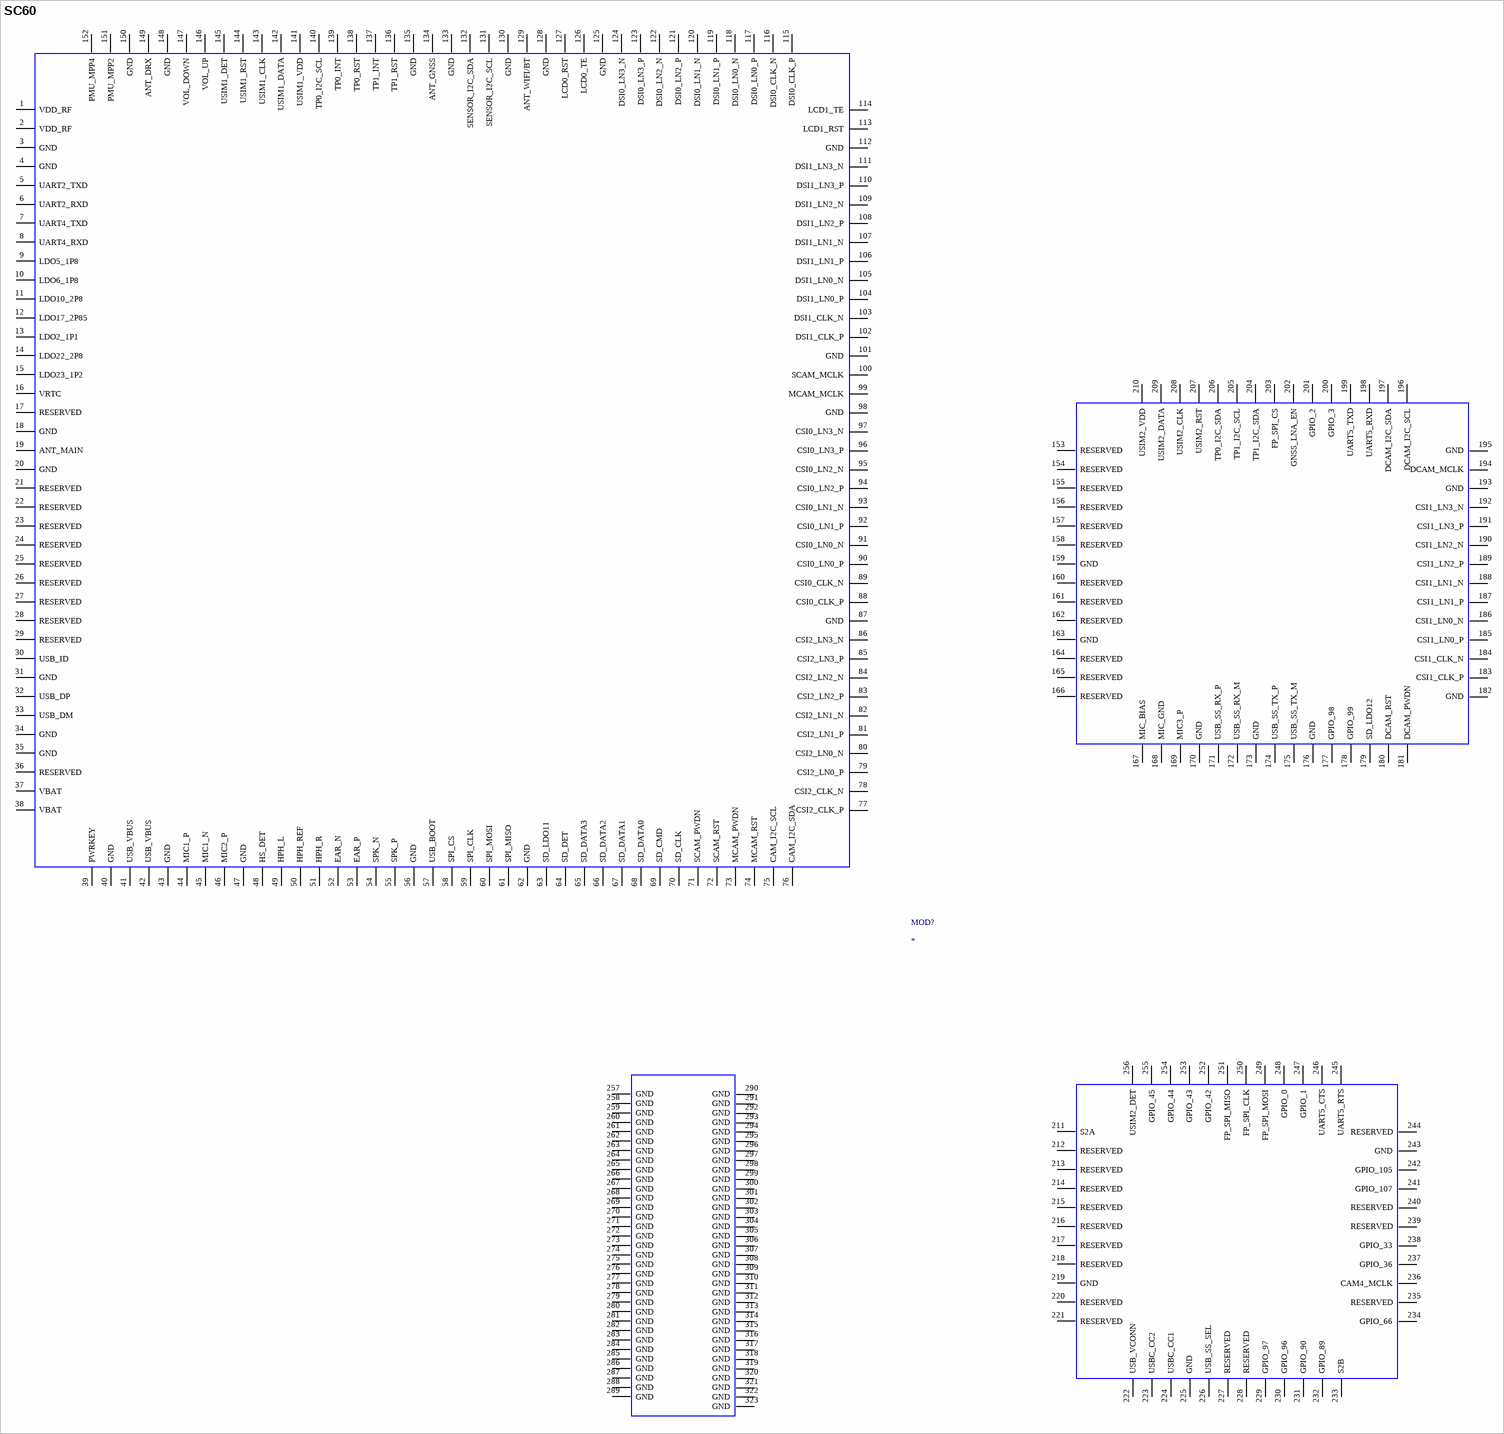
[diagram p5: symbol SC60]

## SC60
designator MOD?
Manuf1: Quectel; Manuf1Partnumber: SC60; Populated: Yes; ReferencePackage: LCC; Value: SC60; ComponentLink1Description: Datasheet; LifeCycle: Checked; PackageReference: LCC; ROHS: Yes; Supplier 1: Quectel; Supplier 1 Part Number: SC60
footprint SC60
pins: 1 VDD_RF, 2 VDD_RF, 3 GND, 4 GND, 5 UART2_TXD, 6 UART2_RXD, 7 UART4_TXD, 8 UART4_RXD, 9 LDO5_1P8, 10 LDO6_1P8, 11 LDO10_2P8, 12 LDO17_2P85, 13 LDO2_1P1, 14 LDO22_2P8, 15 LDO23_1P2, 16 VRTC, 17 RESERVED, 18 GND, 19 ANT_MAIN, 20 GND, 21 RESERVED, 22 RESERVED, 23 RESERVED, 24 RESERVED, 25 RESERVED, 26 RESERVED, 27 RESERVED, 28 RESERVED, 29 RESERVED, 30 USB_ID, 31 GND, 32 USB_DP, 33 USB_DM, 34 GND, 35 GND, 36 RESERVED, 37 VBAT, 38 VBAT, 39 PWRKEY, 40 GND, 41 USB_VBUS, 42 USB_VBUS, 43 GND, 44 MIC1_P, 45 MIC1_N, 46 MIC2_P, 47 GND, 48 HS_DET, 49 HPH_L, 50 HPH_REF, 51 HPH_R, 52 EAR_N, 53 EAR_P, 54 SPK_N, 55 SPK_P, 56 GND, 57 USB_BOOT, 58 SPI_CS, 59 SPI_CLK, 60 SPI_MOSI, 61 SPI_MISO, 62 GND, 63 SD_LDO11, 64 SD_DET, 65 SD_DATA3, 66 SD_DATA2, 67 SD_DATA1, 68 SD_DATA0, 69 SD_CMD, 70 SD_CLK, 71 SCAM_PWDN, 72 SCAM_RST, 73 MCAM_PWDN, 74 MCAM_RST, 75 CAM_I2C_SCL, 76 CAM_I2C_SDA, 77 CSI2_CLK_P, 78 CSI2_CLK_N, 79 CSI2_LN0_P, 80 CSI2_LN0_N, 81 CSI2_LN1_P, 82 CSI2_LN1_N, 83 CSI2_LN2_P, 84 CSI2_LN2_N, 85 CSI2_LN3_P, 86 CSI2_LN3_N, 87 GND, 88 CSI0_CLK_P, 89 CSI0_CLK_N, 90 CSI0_LN0_P, 91 CSI0_LN0_N, 92 CSI0_LN1_P, 93 CSI0_LN1_N, 94 CSI0_LN2_P, 95 CSI0_LN2_N, 96 CSI0_LN3_P, 97 CSI0_LN3_N, 98 GND, 99 MCAM_MCLK, 100 SCAM_MCLK, 101 GND, 102 DSI1_CLK_P, 103 DSI1_CLK_N, 104 DSI1_LN0_P, 105 DSI1_LN0_N, 106 DSI1_LN1_P, 107 DSI1_LN1_N, 108 DSI1_LN2_P, 109 DSI1_LN2_N, 110 DSI1_LN3_P, 111 DSI1_LN3_N, 112 GND, 113 LCD1_RST, 114 LCD1_TE, 115 DSI0_CLK_P, 116 DSI0_CLK_N, 117 DSI0_LN0_P, 118 DSI0_LN0_N, 119 DSI0_LN1_P, 120 DSI0_LN1_N, 121 DSI0_LN2_P, 122 DSI0_LN2_N, 123 DSI0_LN3_P, 124 DSI0_LN3_N, 125 GND, 126 LCD0_TE, 127 LCD0_RST, 128 GND, 129 ANT_WIFI/BT, 130 GND, 131 SENSOR_I2C_SCL, 132 SENSOR_I2C_SDA, 133 GND, 134 ANT_GNSS, 135 GND, 136 TP1_RST, 137 TP1_INT, 138 TP0_RST, 139 TP0_INT, 140 TP0_I2C_SCL, 141 USIM1_VDD, 142 USIM1_DATA, 143 USIM1_CLK, 144 USIM1_RST, 145 USIM1_DET, 146 VOL_UP, 147 VOL_DOWN, 148 GND, 149 ANT_DRX, 150 GND, 151 PMU_MPP2, 152 PMU_MPP4, 153 RESERVED, 154 RESERVED, 155 RESERVED, 156 RESERVED, 157 RESERVED, 158 RESERVED, 159 GND, 160 RESERVED, 161 RESERVED, 162 RESERVED, 163 GND, 164 RESERVED, 165 RESERVED, 166 RESERVED, 167 MIC_BIAS, 168 MIC_GND, 169 MIC3_P, 170 GND, 171 USB_SS_RX_P, 172 USB_SS_RX_M, 173 GND, 174 USB_SS_TX_P, 175 USB_SS_TX_M, 176 GND, 177 GPIO_98, 178 GPIO_99, 179 SD_LDO12, 180 DCAM_RST, 181 DCAM_PWDN, 182 GND, 183 CSI1_CLK_P, 184 CSI1_CLK_N, 185 CSI1_LN0_P, 186 CSI1_LN0_N, 187 CSI1_LN1_P, 188 CSI1_LN1_N, 189 CSI1_LN2_P, 190 CSI1_LN2_N, 191 CSI1_LN3_P, 192 CSI1_LN3_N, 193 GND, 194 DCAM_MCLK, 195 GND, 196 DCAM_I2C_SCL, 197 DCAM_I2C_SDA, 198 UART5_RXD, 199 UART5_TXD, 200 GPIO_3, 201 GPIO_2, 202 GNSS_LNA_EN, 203 FP_SPI_CS, 204 TP1_I2C_SDA, 205 TP1_I2C_SCL, 206 TP0_I2C_SDA, 207 USIM2_RST, 208 USIM2_CLK, 209 USIM2_DATA, 210 USIM2_VDD, 211 S2A, 212 RESERVED, 213 RESERVED, 214 RESERVED, 215 RESERVED, 216 RESERVED, 217 RESERVED, 218 RESERVED, 219 GND, 220 RESERVED, 221 RESERVED, 222 USB_VCONN, 223 USBC_CC2, 224 USBC_CC1, 225 GND, 226 USB_SS_SEL, 227 RESERVED, 228 RESERVED, 229 GPIO_97, 230 GPIO_96, 231 GPIO_90, 232 GPIO_89, 233 S2B, 234 GPIO_66, 235 RESERVED, 236 CAM4_MCLK, 237 GPIO_36, 238 GPIO_33, 239 RESERVED, 240 RESERVED, 241 GPIO_107, 242 GPIO_105, 243 GND, 244 RESERVED, 245 UART5_RTS, 246 UART5_CTS, 247 GPIO_1, 248 GPIO_0, 249 FP_SPI_MOSI, 250 FP_SPI_CLK, 251 FP_SPI_MISO, 252 GPIO_42, 253 GPIO_43, 254 GPIO_44, 255 GPIO_45, 256 USIM2_DET, 257 GND, 258 GND, 259 GND, 260 GND, 261 GND, 262 GND, 263 GND, 264 GND, 265 GND, 266 GND, 267 GND, 268 GND, 269 GND, 270 GND, 271 GND, 272 GND, 273 GND, 274 GND, 275 GND, 276 GND, 277 GND, 278 GND, 279 GND, 280 GND, 281 GND, 282 GND, 283 GND, 284 GND, 285 GND, 286 GND, 287 GND, 288 GND, 289 GND, 290 GND, 291 GND, 292 GND, 293 GND, 294 GND, 295 GND, 296 GND, 297 GND, 298 GND, 299 GND, 300 GND, 301 GND, 302 GND, 303 GND, 304 GND, 305 GND, 306 GND, 307 GND, 308 GND, 309 GND, 310 GND, 311 GND, 312 GND, 313 GND, 314 GND, 315 GND, 316 GND, 317 GND, 318 GND, 319 GND, 320 GND, 321 GND, 322 GND, 323 GND

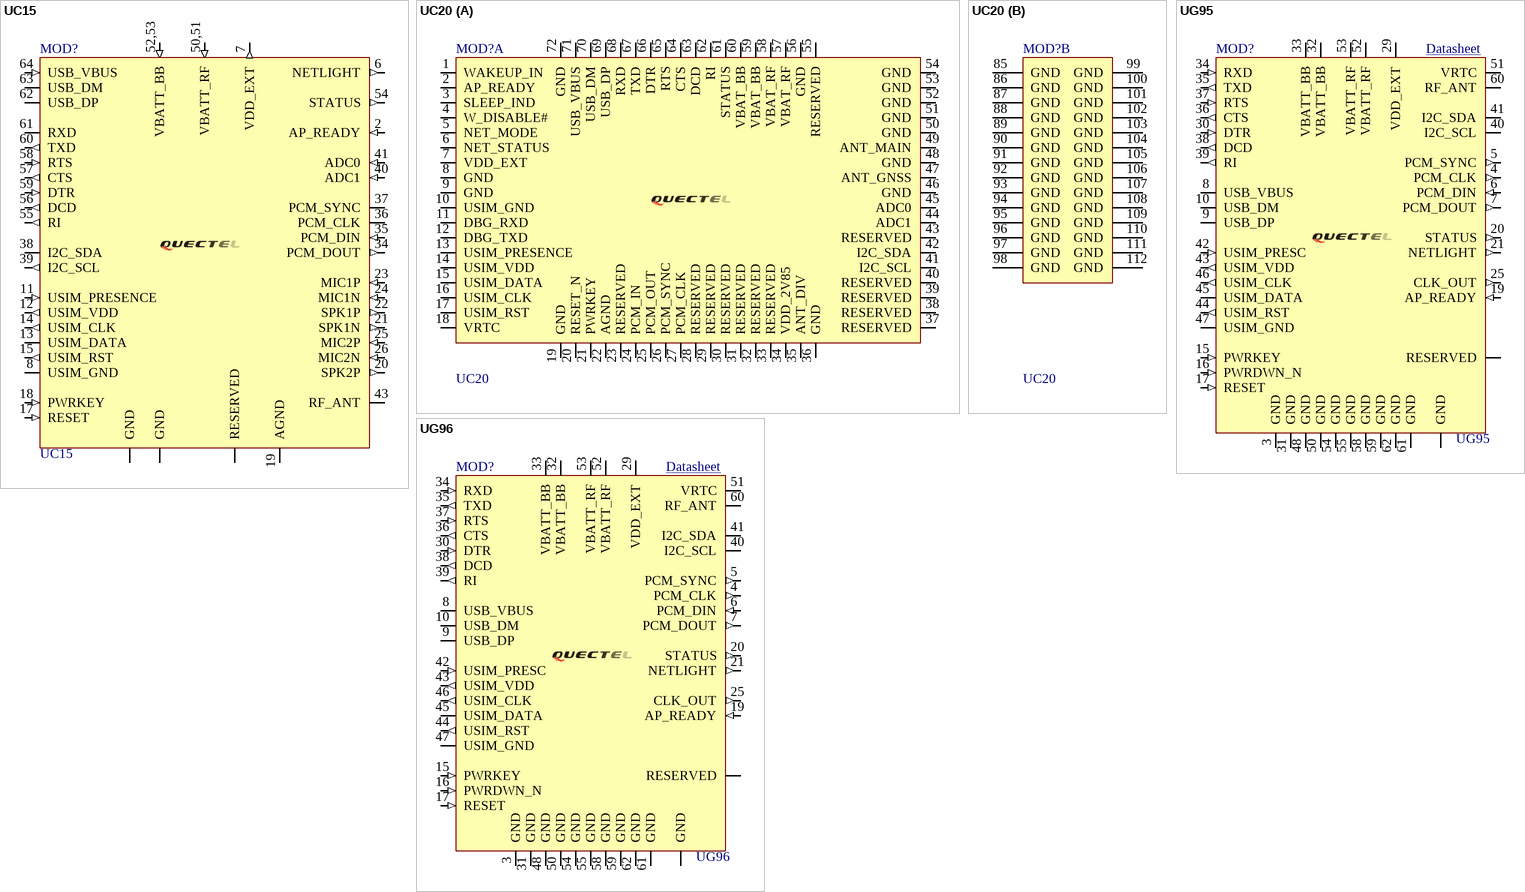
[diagram p6: symbols UC15 to UG96]

## UC15
designator MOD?
UMTS/HSDPA module; Manuf1: Quectel; Populated: Yes; ReferencePackage: LCC; Value: UC15; ROHS: Yes; Manuf1Partnumber: UC15; Supplier 1: Quectel; Supplier 1 Part Number: UC15; LifeCycle: Checked; PackageReference: LCC; ComponentLink1Description: Datasheet; ComponentLink1URL: http://www.quectel.com/UploadImage/Downlad/Quectel_UC15_Hardware_Design_V1.6.pdf
footprint UC15
pins: 2 AP_READY (in), 6 NETLIGHT (out), 7 VDD_EXT (out), 8 USIM_GND (power), 11 USIM_PRESENCE (in), 12 USIM_VDD (out), 13 USIM_DATA (io), 14 USIM_CLK (out), 15 USIM_RST (out), 17 RESET (in), 18 PWRKEY (in), 19 AGND (power), 20 SPK2P (out), 21 SPK1N (out), 22 SPK1P (out), 23 MIC1P (in), 24 MIC1N (in), 25 MIC2P (in), 26 MIC2N (in), 34 PCM_DOUT (out), 35 PCM_DIN (in), 36 PCM_CLK (io), 37 PCM_SYNC (io), 38 I2C_SDA (io), 39 I2C_SCL (out), 40 ADC1 (in), 41 ADC0 (in), 42,44,45,46,47,48,49,65,67,68 GND (power), 43 RF_ANT (io), 50,51 VBATT_RF (in), 52,53 VBATT_BB (in), 54 STATUS (out), 55 RI (out), 56 DCD (out), 57 CTS (out), 58 RTS (in), 59 DTR (in), 60 TXD (out), 61 RXD (io), 62 USB_DP (io), 63 USB_DM (io), 64 USB_VBUS (in), 80,79,78,77,76,75,74,73,72,71,69,66,33,32,31,30,29,28,27,16,10,9,5,4,3,1 RESERVED, 108,107,106,105,104,103,102,101,100,99,98,97,96,95,94,93,92,91,90,89,88,87,86,85,84,83,82,81 GND (power)

## UC20
designator MOD?
Penta-band UMTS and Quad-band GSM - UMTS/HSPA Module Series; Manuf1: Quectel; Populated: Yes; ReferencePackage: LCC; LifeCycle: Checked; Manuf1Partnumber: UC20; PackageReference: LCC; ROHS: Yes; Supplier 1: Quectel; Supplier 1 Part Number: UC20; Value: UC20; ComponentLink1Description: Datasheet; ComponentLink1URL: http://www.quectel.com/UploadImage/Downlad/Quectel_UC20_Hardware_Design_V1.5.pdf
footprint UC20
part A pins: 1 WAKEUP_IN, 2 AP_READY, 3 SLEEP_IND, 4 W_DISABLE#, 5 NET_MODE, 6 NET_STATUS, 7 VDD_EXT, 8 GND, 9 GND, 10 USIM_GND, 11 DBG_RXD, 12 DBG_TXD, 13 USIM_PRESENCE, 14 USIM_VDD, 15 USIM_DATA, 16 USIM_CLK, 17 USIM_RST, 18 VRTC, 19 GND, 20 RESET_N, 21 PWRKEY, 22 AGND, 23 RESERVED, 24 PCM_IN, 25 PCM_OUT, 26 PCM_SYNC, 27 PCM_CLK, 28 RESERVED, 29 RESERVED, 30 RESERVED, 31 RESERVED, 32 RESERVED, 33 RESERVED, 34 VDD_2V85, 35 ANT_DIV, 36 GND, 37 RESERVED, 38 RESERVED, 39 RESERVED, 40 RESERVED, 41 I2C_SCL, 42 I2C_SDA, 43 RESERVED, 44 ADC1, 45 ADC0, 46 GND, 47 ANT_GNSS, 48 GND, 49 ANT_MAIN, 50 GND, 51 GND, 52 GND, 53 GND, 54 GND, 55 RESERVED, 56 GND, 57 VBAT_RF, 58 VBAT_RF, 59 VBAT_BB, 60 VBAT_BB, 61 STATUS, 62 RI, 63 DCD, 64 CTS, 65 RTS, 66 DTR, 67 TXD, 68 RXD, 69 USB_DP, 70 USB_DM, 71 USB_VBUS, 72 GND
part B pins: 85 GND, 86 GND, 87 GND, 88 GND, 89 GND, 90 GND, 91 GND, 92 GND, 93 GND, 94 GND, 95 GND, 96 GND, 97 GND, 98 GND, 99 GND, 100 GND, 101 GND, 102 GND, 103 GND, 104 GND, 105 GND, 106 GND, 107 GND, 108 GND, 109 GND, 110 GND, 111 GND, 112 GND

## UG95
designator MOD?
UMTS/HSPA Module Series; Manuf1: Quectel; Populated: Yes; ReferencePackage: LCC; Value: UG95; ROHS: Yes; ClassName: *; Code_JEDEC: *; PackageReference: LCC; Manuf1Partnumber: UG95; LifeCycle: Checked; HelpURL: *; Supplier 1 Part Number: UG95; Supplier 1: Quectel; ComponentLink1Description: Datasheet; ComponentLink1URL: http://www.quectel.com/UploadImage/Downlad/Quectel_UG95_Hardware_Design_V1.5.pdf
footprint UG95
pins: 1, 2, 11, 12, 13, 14, 18, 22, 23, 24, 26, 27, 28, 49, 56, 57, 63, 64, 65, 66, 75, 76, 77, 78, 83, 84, 85, 86, 87, 88, 92, 93, 94, 95, 96, 97, 98, 99 RESERVED, 3 GND (power), 4 PCM_CLK (out), 5 PCM_SYNC (out), 6 PCM_DIN (in), 7 PCM_DOUT (out), 8 USB_VBUS, 9 USB_DP (io), 10 USB_DM (io), 15 PWRKEY (in), 16 PWRDWN_N (in), 17 RESET (in), 19 AP_READY (in), 20 STATUS (out), 21 NETLIGHT (out), 25 CLK_OUT (out), 29 VDD_EXT (power), 30 DTR (in), 31 GND (power), 32 VBATT_BB (power), 33 VBATT_BB (power), 34 RXD (in), 35 TXD (out), 36 CTS (out), 37 RTS (in), 38 DCD (out), 39 RI (out), 40 I2C_SCL (io), 41 I2C_SDA (io), 42 USIM_PRESC (in), 43 USIM_VDD (out), 44 USIM_RST (out), 45 USIM_DATA (io), 46 USIM_CLK (out), 47 USIM_GND, 48 GND (power), 50 GND (power), 51 VRTC, 52 VBATT_RF (power), 53 VBATT_RF (power), 54 GND (power), 55 GND (power), 58 GND (power), 59 GND (power), 60 RF_ANT (io), 61 GND (power), 62 GND (power), 67, 68, 69, 70, 71, 72, 73, 74, 79, 80, 81, 82, 89, 90, 91, 100, 101, 102 GND (power)

## UG96
designator MOD?
UMTS/HSPA Module Series; Manuf1: Quectel; Populated: Yes; ReferencePackage: LCC; Value: UG96; ROHS: Yes; ClassName: *; Code_JEDEC: *; PackageReference: LCC; Manuf1Partnumber: UG96; LifeCycle: Checked; HelpURL: *; Supplier 1 Part Number: UG96; Supplier 1: Quectel; ComponentLink1Description: Datasheet; ComponentLink1URL: http://www.quectel.com/UploadImage/Downlad/Quectel_UG96_Hardware_Design_V1.2.pdf
footprint UG96
pins: 1, 2, 11, 12, 13, 14, 18, 22, 23, 24, 26, 27, 28, 49, 56, 57, 63, 64, 65, 66, 75, 76, 77, 78, 83, 84, 85, 86, 87, 88, 92, 93, 94, 95, 96, 97, 98, 99 RESERVED, 3 GND (power), 4 PCM_CLK (out), 5 PCM_SYNC (out), 6 PCM_DIN (in), 7 PCM_DOUT (out), 8 USB_VBUS, 9 USB_DP (io), 10 USB_DM (io), 15 PWRKEY (in), 16 PWRDWN_N (in), 17 RESET (in), 19 AP_READY (in), 20 STATUS (out), 21 NETLIGHT (out), 25 CLK_OUT (out), 29 VDD_EXT (power), 30 DTR (in), 31 GND (power), 32 VBATT_BB (power), 33 VBATT_BB (power), 34 RXD (in), 35 TXD (out), 36 CTS (out), 37 RTS (in), 38 DCD (out), 39 RI (out), 40 I2C_SCL (io), 41 I2C_SDA (io), 42 USIM_PRESC (in), 43 USIM_VDD (out), 44 USIM_RST (out), 45 USIM_DATA (io), 46 USIM_CLK (out), 47 USIM_GND, 48 GND (power), 50 GND (power), 51 VRTC, 52 VBATT_RF (power), 53 VBATT_RF (power), 54 GND (power), 55 GND (power), 58 GND (power), 59 GND (power), 60 RF_ANT (io), 61 GND (power), 62 GND (power), 67, 68, 69, 70, 71, 72, 73, 74, 79, 80, 81, 82, 89, 90, 91, 100, 101, 102 GND (power)